# Altium integrated library Hardware.IntLib: 14 symbols
Pins are listed as number, name and electrical type; pins without a type are passive.

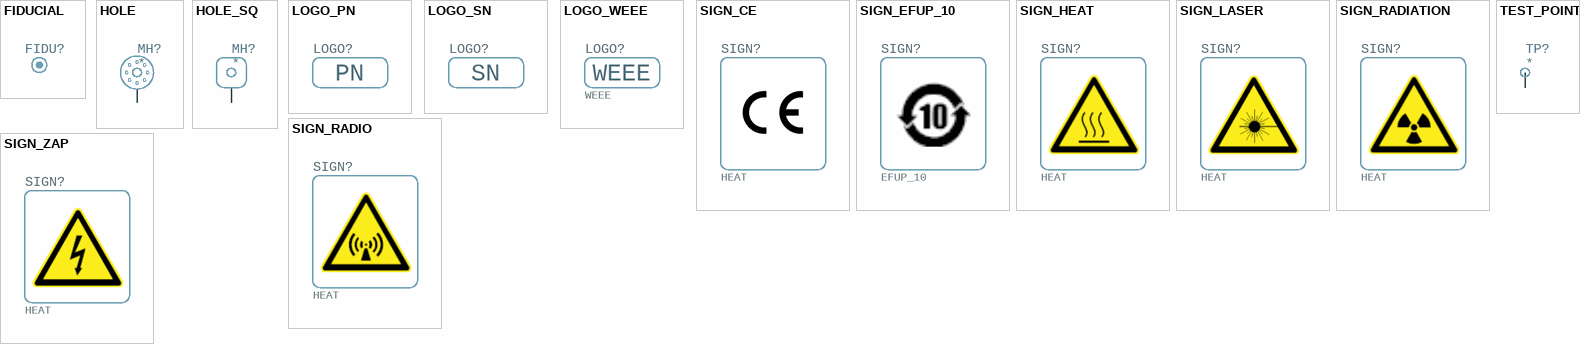
[diagram p0: symbols FIDUCIAL to TEST_POINT]

## FIDUCIAL
designator FIDU?  (value not drawn)  (no BOM)
footprint TP_20
footprint FD_50

## HOLE
designator MH?  (no BOM)
footprint HOLE_M2 (Example Component)
footprint HOLE_M2.5 (Example Component)
footprint HOLE_M3 (Example Component)
footprint HOLE_M4 (Example Component)
pins: A

## HOLE_SQ
designator MH?  (no BOM)
footprint HOLE_M2.5_SQ (Example Component)
pins: A

## LOGO_PN
designator LOGO?, comment PN  (value not drawn)  (no BOM)
Part Number
footprint LABEL_PN

## LOGO_SN
designator LOGO?, comment Serial Number  (value not drawn)  (no BOM)
footprint LABEL_SN
text: SN

## LOGO_WEEE
designator LOGO?, comment WEEE  (no BOM)
WEEE Logo
footprint LOGO_WEEE

## SIGN_CE
designator SIGN?, comment HEAT  (no BOM)
footprint SIGN_CE (Example Component)

## SIGN_EFUP_10
designator SIGN?, comment EFUP_10  (no BOM)
https://deskthority.net/wiki/Category:Agency_marks
footprint SIGN_CE (Example Component)

## SIGN_HEAT
designator SIGN?, comment HEAT  (no BOM)
footprint SIGN_HEAT (Example Component)

## SIGN_LASER
designator SIGN?, comment HEAT  (no BOM)
footprint SIGN_RADIATION

## SIGN_RADIATION
designator SIGN?, comment HEAT  (no BOM)
footprint SIGN_RADIATION

## SIGN_RADIO
designator SIGN?, comment HEAT  (no BOM)
https://freesvg.org/radio-waves-hazard-warning-sign-vector-image
footprint SIGN_ZAP

## SIGN_ZAP
designator SIGN?, comment HEAT  (no BOM)
footprint SIGN_ZAP

## TEST_POINT
designator TP?  (no BOM)
footprint TP_20
footprint TP_30
footprint TP_A
footprint TP_B
pins: 1